# EAGLE library part L298N-MULTIWATT15 (library ECE5780-MotorDriver)
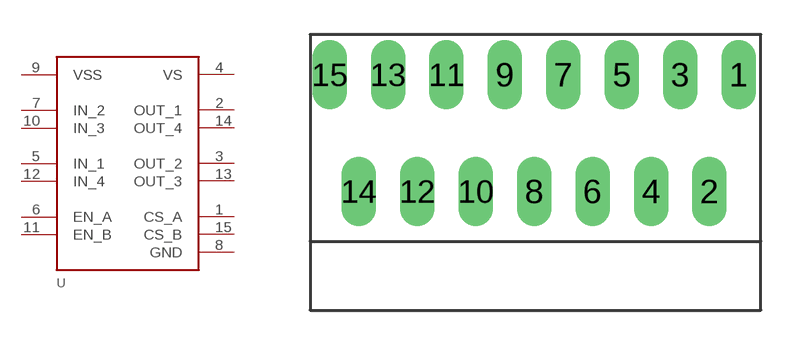
[diagram p0: symbol with the pads of L298N-MULTIWATT15; footprint L298N-MULTIWATT15]

Designator prefix -

## L298N-MULTIWATT15  [L298N-MULTIWATT15]
1  CS_A
2  OUT_1
3  OUT_2
4  VS
5  IN_1
6  EN_A
7  IN_2
8  GND
9  VSS
10  IN_3
11  EN_B
12  IN_4
13  OUT_3
14  OUT_4
15  CS_B

## Footprint L298N-MULTIWATT15 (pad centres in mm)
drill 1 pad 1.2 long: 1 9.03,2.25; 2 7.76,-2.83; 3 6.49,2.25; 4 5.22,-2.83; 5 3.95,2.25; 6 2.68,-2.83; 7 1.41,2.25; 8 0.14,-2.83; 9 -1.13,2.25; 10 -2.4,-2.83; 11 -3.67,2.25; 12 -4.94,-2.83; 13 -6.21,2.25; 14 -7.48,-2.83; 15 -8.75,2.25